# Altium footprint library LS05-13BxxR3.PcbLib: 1 footprints
Each footprint in its own frame and in the unit in brackets; x right, y up, seen from the top. Pads: shape width x height; smd on the part's side, far side on the other; paste and mask are expansions set on the pad; w line width, h text height; cw(c..) or ccw(c..) is an arc to the next point about the centre after c.
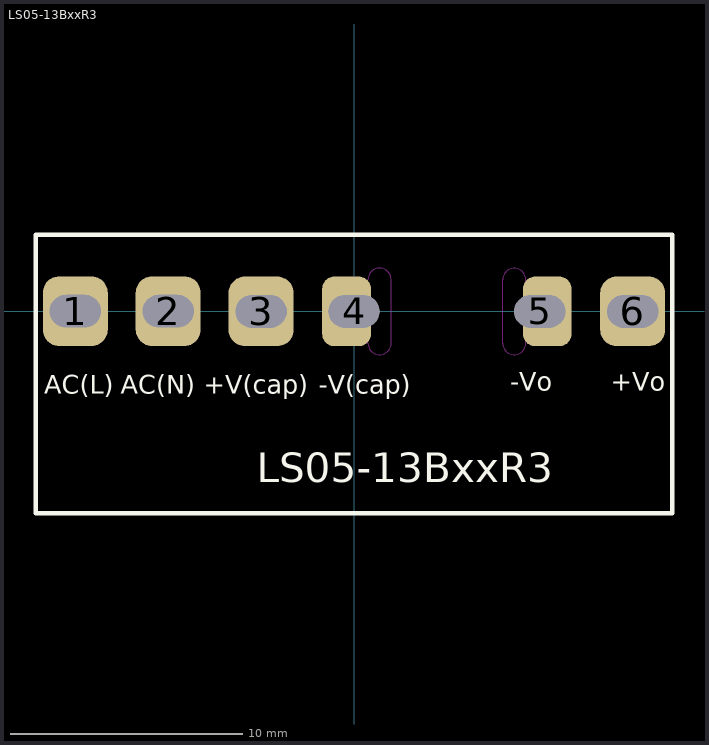
[diagram p0: the footprint, top view; thin cyan lines are the x and y axes]

## LS05-13BxxR3 [mm]
pads (6):
  rrect50% 2.8x3 hole 1.4 slot 2.2 at 0 deg: 1(-12,0.005) 2(-8,0.005) 3(-4,-0.005) 6(12,-0.005)
  rrect50% 2.1x3 hole 1.4 slot 2.2 at 0 deg copper offset -0.32,0: 4(0,-0.005)
  rrect50% 2.1x3 hole 1.4 slot 2.2 at 0 deg copper offset 0.32,0: 5(8,-0.005)
Top Overlay:
  lines w0.2: -13.7,-8.7 13.7,-8.7 13.7,3.3 -13.7,3.3 -13.7,-8.7
  text "+Vo" at 11.049,-3.429 h0.8
  text "-Vo" at 6.731,-3.429 h0.8
  text "-V(cap)" at -1.524,-3.556 h0.8
  text "+V(cap)" at -6.477,-3.556 h0.8
  text "AC(N)" at -10.033,-3.556 h0.8
  text "AC(L)" at -13.335,-3.556 h0.8
  text "LS05-13BxxR3" at -4.191,-7.366 h1.27
Keep-Out Layer:
  lines w0.05: 1.599,-1.37 1.599,1.36 ccw(c1.099,1.36) 0.599,1.36 0.6,-1.37 ccw(c1.1,-1.37) 1.6,-1.37 ; 6.4,-1.37 ccw(c6.9,-1.37) 7.4,-1.37 7.4,1.36 ; 6.401,-1.37 6.401,1.36 ; 6.401,1.357 cw(c6.901,1.357) 7.401,1.357
3D body: height 16.23, standoff -1.38, extent -13.335,-7.588 13.033,2.762